# EAGLE library part LSF0204RUTR (library LSF0204RUTR)
4-Bit Bidirectional Multi-Voltage Level Translator for Open-Drain & Push- Pull Source: Datasheet <http://www.ti.com/lit/gpn/lsf0204>
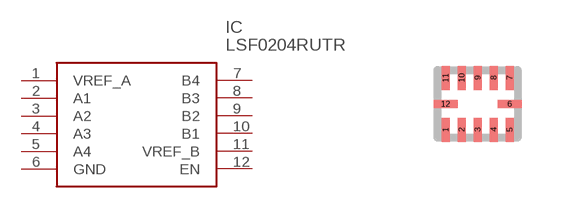
[diagram p0: symbol with the pads of RUT(R-PUQFN-N12); footprint RUT(R-PUQFN-N12)]

Designator prefix IC

## LSF0204RUTR (Description: 4-Bit Bidirectional Multi-Voltage Level Translator for Open-Drain & Push- Pull; Height: mm; Manufacturer_Name: Texas Instruments; Manufacturer_Part_Number: LSF0204RUTR; Mouser_Part_Number: 595-LSF0204RUTR; Mouser_Price-Stock: https://www.mouser.co.uk/ProductDetail/Texas-Instruments/LSF0204RUTR?qs=m%2F7bTylgptfw1v7l22jn0g%3D%3D)  [RUT(R-PUQFN-N12)]
1  VREF_A
2  A1
3  A2
4  A3
5  A4
6  GND
7  B4
8  B3
9  B2
10  B1
11  VREF_B
12  EN

## Footprint RUT(R-PUQFN-N12) (pad centres in mm)
RUT(R-PUQFN-N12)
smd 0.2 x 0.6: 1 -0.8,-0.65; 2 -0.4,-0.65; 3 0,-0.65; 4 0.4,-0.65; 5 0.8,-0.65; 7 0.8,0.65; 8 0.4,0.65; 9 0,0.65; 10 -0.4,0.65; 11 -0.8,0.65
smd 0.6 x 0.2: 6 0.8,0; 12 -0.8,0